# EAGLE library part ARDUINO_PRO_MINI_FULL (library MultiWiiArduino)
Arduino Pro Mini
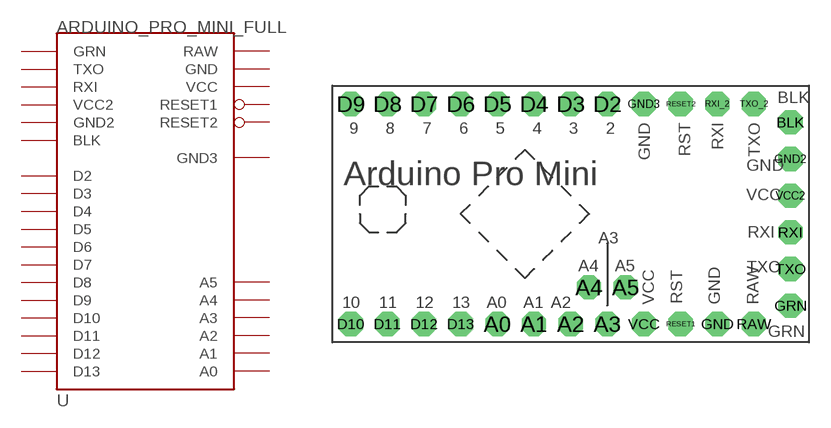
[diagram p1: symbol with the pads of ARDUINO_PRO_MINI_FULL; footprint ARDUINO_PRO_MINI_FULL]

Designator prefix -

## ARDUINO_PRO_MINI_FULL  [ARDUINO_PRO_MINI_FULL]
A0  A0
A1  A1
A2  A2
A3  A3
A4  A4
A5  A5
BLK  BLK
D2  D2
D3  D3
D4  D4
D5  D5
D6  D6
D7  D7
D8  D8
D9  D9
D10  D10
D11  D11
D12  D12
D13  D13
GND  GND  pwr
GND2  GND2  pwr
GND3  GND3  pwr
GRN  GRN
RAW  RAW  pwr
RESET1  RESET1
RESET2  RESET2
RXI  RXI
TXO  TXO
VCC  VCC  pwr
VCC2  VCC2  pwr

## Footprint ARDUINO_PRO_MINI_FULL (pad centres in mm)
drill 1 pad 1.676 octagon: A0 -5.08,-7.62; A1 -2.54,-7.62; A2 0,-7.62; A3 2.54,-7.62; A4 1.27,-5.08; A5 3.81,-5.08; BLK 15.24,6.35; D2 2.54,7.62; D3 0,7.62; D4 -2.54,7.62; D5 -5.08,7.62; D6 -7.62,7.62; D7 -10.16,7.62; D8 -12.7,7.62; D9 -15.24,7.62; D10 -15.24,-7.62; D11 -12.7,-7.62; D12 -10.16,-7.62; D13 -7.62,-7.62; GND 10.16,-7.62; GND2 15.24,3.81; GND3 5.08,7.62; GRN 15.24,-6.35; RAW 12.7,-7.62; RESET1 7.62,-7.62; RESET2 7.62,7.62; RXI 15.24,-1.27; RXI_2 10.16,7.62; TXO 15.24,-3.81; TXO_2 12.7,7.62; VCC 5.08,-7.62; VCC2 15.24,1.27